# Altium footprint library Negm_3.PcbLib: 2 footprints
Each footprint in its own frame and in the unit in brackets; x right, y up, seen from the top. Pads: shape width x height; smd on the part's side, far side on the other; paste and mask are expansions set on the pad; w line width, h text height; cw(c..) or ccw(c..) is an arc to the next point about the centre after c.
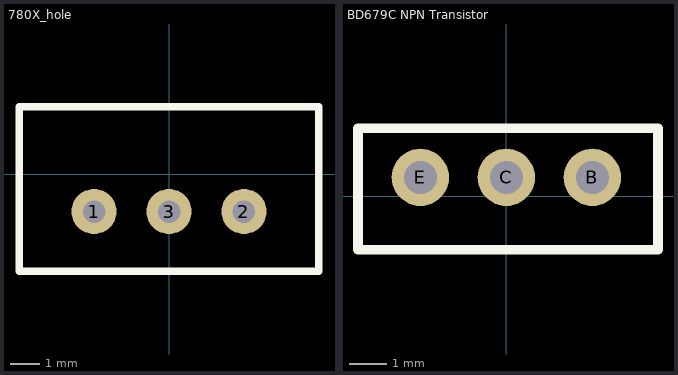
[diagram p0: the footprints below, top view; thin cyan lines are the x and y axes]

## 780X_hole [mil]
pads (3):
  round 60 hole 30: 1(-100,-50) 2(100,-50) 3(0,-50)
Top Overlay:
  lines w10: -200,-130 200,-130 200,90 -200,90 -200,-130
Mechanical_29:
  text ".Designator" at -40,39.99 h60
3D body "9181971.stp": height 813.44, standoff -330.32, extent -200.79,-130 200.79,90.73

## BD679C NPN Transistor [mil] "BD679C 750@1.5A,3V 80V NPN 4A 40W TO-126-3 Darlington Transistor"
pads (3):
  round 60 hole 34.65: B(90,20) C(0,20) E(-90,20)
Top Overlay:
  lines w10: -155.2,-55.63 158.66,-55.63 158.66,71.3 -155.2,71.3 -155.2,-55.63
Mechanical_29:
  text ".Designator" at -220,119.99 h60
3D body "User Library-TO-126-1.STEP": height 671.03, standoff -420.58, extent -155.75,-55.63 159.21,72.32